# Altium schematic symbol library pspice.SchLib: 16 symbols
Pins are listed as number, name and electrical type; pins without a type are passive.

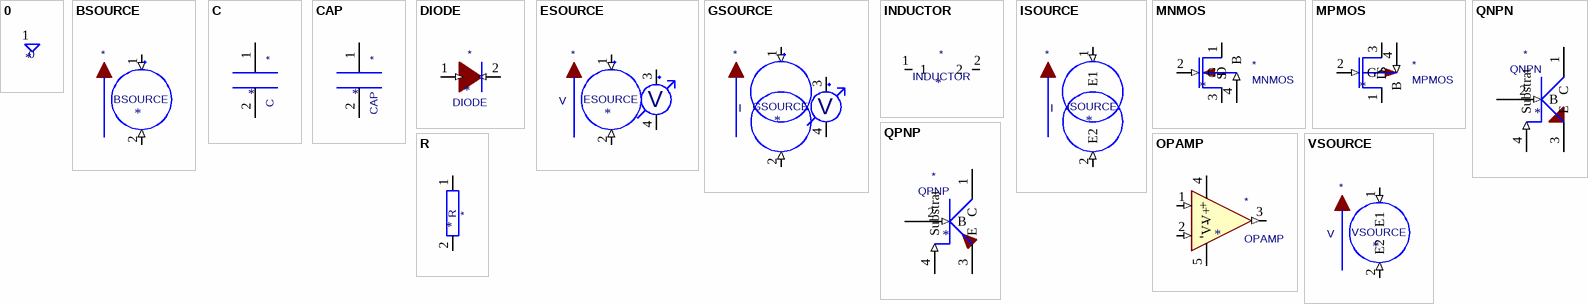
[diagram p0: symbols 0 to VSOURCE]

## 0
designator *  value 0
ki_keywords: simulation; ki_description: 0V reference potential for simulation; Supplier: ~
pins: 1 0 (power)

## BSOURCE
designator *  value BSOURCE
ki_keywords: simulation; ki_description: Arbitrary behavioral voltage or current source; Supplier: http://ltwiki.org/?title=B_sources_%28complete_reference%29
pins: 1 N+ (in), 2 N- (in)

## C
designator *  value C
ki_keywords: simulation; ki_description: Capacitor symbol for simulation only; Supplier: ~
pins: 1, 2

## CAP
designator *  value CAP
ki_keywords: simulation; ki_description: Capacitor symbol for simulation only; Supplier: ~
pins: 1, 2

## DIODE
designator *  value DIODE
ki_keywords: simulation; ki_description: Diode symbol for simulation only. Pin order incompatible with official kicad footprints; Supplier: ~
pins: 1 K (in), 2 A (in)

## ESOURCE
designator *  value ESOURCE
ki_keywords: simulation; ki_description: Voltage-dependent Voltage source symbol for simulation only; Supplier: https://www.pspice.com/source/controlled-sources
pins: 1 N+ (in), 2 N- (in), 3 C+, 4 C-
text: V

## GSOURCE
designator *  value GSOURCE
ki_keywords: simulation; ki_description: Voltage-dependent Current source symbol for simulation only; Supplier: https://www.pspice.com/source/controlled-sources
pins: 1 N+ (in), 2 N- (in), 3 C+, 4 C-
text: I; V

## INDUCTOR
designator *  value INDUCTOR
ki_keywords: simulation; ki_description: Inductor symbol for simulation only; Supplier: ~
pins: 1 (in), 2 (in)

## ISOURCE
designator *  value ISOURCE
ki_keywords: simulation; ki_description: Current source symbol for simulation only; Supplier: ~
pins: 1 E1 (in), 2 E2 (in)
text: I

## MNMOS
designator *  value MNMOS
ki_keywords: mosfet nmos simulation; ki_description: N-channel MOSFET symbol for simulation only; Supplier: ~
pins: 1 D, 2 G (in), 3 S, 4 B (in)

## MPMOS
designator *  value MPMOS
ki_keywords: mosfet pmos simulation; ki_description: P-channel MOSFET symbol for simulation only; Supplier: ~
pins: 1 D, 2 G (in), 3 S, 4 B (in)

## OPAMP
designator *  value OPAMP
ki_keywords: simulation; ki_description: OPAmp symbol for simulation only; Supplier: ~
pins: 1 + (in), 2 - (in), 3 (out), 4 V+ (power), 5 V- (power)

## QNPN
designator *  value QNPN
ki_keywords: simulation; ki_description: Bipolar transistor symbol for simulation only; Supplier: ~
pins: 1 C, 2 B (in), 3 E, 4 Substrat (in)

## QPNP
designator *  value QPNP
ki_keywords: simulstaion; ki_description: Bipolar transistor symbol for simulation only; Supplier: ~
pins: 1 C (oc), 2 B (in), 3 E (oe), 4 Substrat (in)

## R
designator *  value R
ki_keywords: resistor simulation; ki_description: Resistor symbol for simulation only; Supplier: ~
pins: 1, 2

## VSOURCE
designator *  value VSOURCE
ki_keywords: simulation; ki_description: Voltage source symbol for simulation only; Supplier: ~
pins: 1 E1 (in), 2 E2 (in)
text: V